# EAGLE library part MICROBUILDER_FEATHERWING (library m2_feather_interposer)
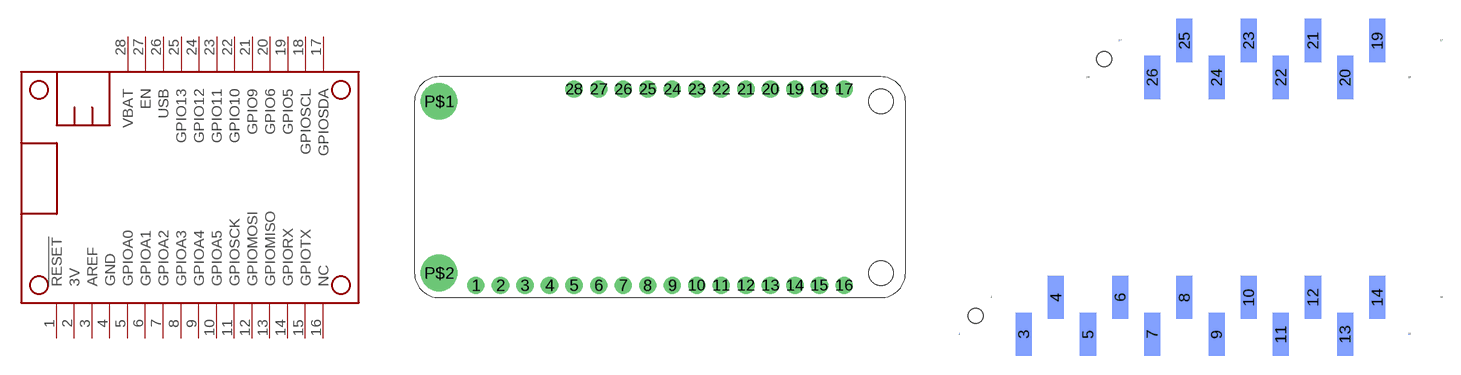
[diagram p4: symbol with the pads of MICROBUILDER_FEATHERWING; footprints MICROBUILDER_FEATHERWING, SMT_BTM_FEATHERWING]

Designator prefix MS

## MICROBUILDER_FEATHERWING  [MICROBUILDER_FEATHERWING]
1  !RESET  in
2  3V  sup
3  AREF  pas
4  GND  pwr
5  GPIOA0
6  GPIOA1
7  GPIOA2
8  GPIOA3
9  GPIOA4
10  GPIOA5
11  GPIOSCK
12  GPIOMOSI
13  GPIOMISO
14  GPIORX
15  GPIOTX
16  NC  pas
17  GPIOSDA
18  GPIOSCL
19  GPIO5
20  GPIO6
21  GPIO9
22  GPIO10
23  GPIO11
24  GPIO12
25  GPIO13
26  USB  sup
27  EN  pas
28  VBAT  sup

## MICROBUILDER_FEATHERWINGSMT_BTM_FEATHER  [SMT_BTM_FEATHERWING]
Pads as for MICROBUILDER_FEATHERWING

## Footprint MICROBUILDER_FEATHERWING (pad centres in mm)
drill 1 pad 1.778: 1 6.35,1.27; 2 8.89,1.27; 3 11.43,1.27; 4 13.97,1.27; 5 16.51,1.27; 6 19.05,1.27; 7 21.59,1.27; 8 24.13,1.27; 9 26.67,1.27; 10 29.21,1.27; 11 31.75,1.27; 12 34.29,1.27; 13 36.83,1.27; 14 39.37,1.27; 15 41.91,1.27; 16 44.45,1.27; 17 44.45,21.59; 18 41.91,21.59; 19 39.37,21.59; 20 36.83,21.59; 21 34.29,21.59; 22 31.75,21.59; 23 29.21,21.59; 24 26.67,21.59; 25 24.13,21.59; 26 21.59,21.59; 27 19.05,21.59; 28 16.51,21.59
drill 2.5 pad 3.81: P$1 2.54,20.32; P$2 2.54,2.54
hole 2.54 at 48.26,20.32
hole 2.54 at 48.26,2.54

## Footprint SMT_BTM_FEATHERWING (pad centres in mm)
smd 0.01 x 0.01 bottom: 1 6.35,-0.19; 2 8.89,2.73; 15 41.91,-0.19; 16 44.45,2.73; 17 44.45,23.05; 18 41.91,20.13; 27 19.05,23.05; 28 16.51,20.13
smd 1.27 x 3.43 bottom: 3 11.43,-0.19; 4 13.97,2.73; 5 16.51,-0.19; 6 19.05,2.73; 7 21.59,-0.19; 8 24.13,2.73; 9 26.67,-0.19; 10 29.21,2.73; 11 31.75,-0.19; 12 34.29,2.73; 13 36.83,-0.19; 14 39.37,2.73; 19 39.37,23.05; 20 36.83,20.13; 21 34.29,23.05; 22 31.75,20.13; 23 29.21,23.05; 24 26.67,20.13; 25 24.13,23.05; 26 21.59,20.13
hole 1.19 at 17.78,21.59
hole 1.19 at 7.62,1.27